# Altium schematic symbol library Mosfet Array.SchLib: 2 symbols
Pins are listed as number, name and electrical type; pins without a type are passive.

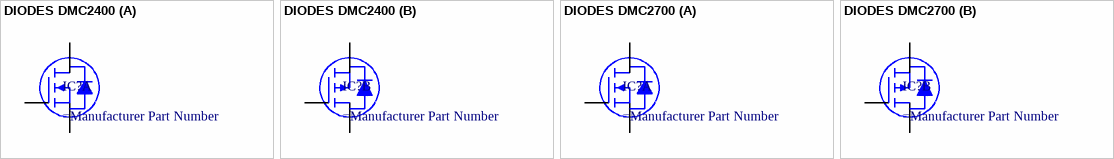
[diagram p0: symbols DIODES DMC2400 to DIODES DMC2700]

## DIODES DMC2400
designator IC?
COMPLEMENTARY PAIR ENHANCEMENT MODE MOSFET
footprint DIODE SOT-563 (SOT563)
part A pins: 1 S1, 2 G1, 6 D1
part B pins: 3 D2, 4 S2, 5 G2

## DIODES DMC2700
designator IC?
20V COMPLEMENTARY PAIR ENHANCEMENT MODE MOSFET
footprint DIODES SOT-26-6
part A pins: 1 G1, 5 S1, 6 D1
part B pins: 2 D2, 3 G2, 4 S2